# EAGLE library part TPS61256YFFR (library tps61256-5vreg)
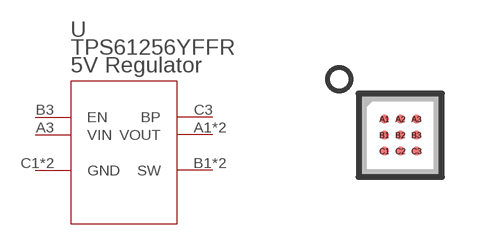
[diagram p0: symbol with the pads of YFF9; footprint YFF9]

Designator prefix U

## TPS61256YFFR (MANUFACTURER_PART_NUMBER: TPS61256YFFR; VENDOR: Texas Instruments)  [YFF9]
A1  VOUT  out
A2  VOUT  out
A3  VIN  in
B1  SW
B2  SW
B3  EN  in
C1  GND  pwr
C2  GND  pwr
C3  BP  in

## Footprint YFF9 (pad centres in mm)
smd 0.23 x 0.23: A1 -0.4,0.4; A2 0,0.4; A3 0.4,0.4; B1 -0.4,0; B2 0,0; B3 0.4,0; C1 -0.4,-0.4; C2 0,-0.4; C3 0.4,-0.4